# Altium schematic symbol library memory.SchLib: 20 symbols
Pins are listed as number, name and electrical type; pins without a type are passive.

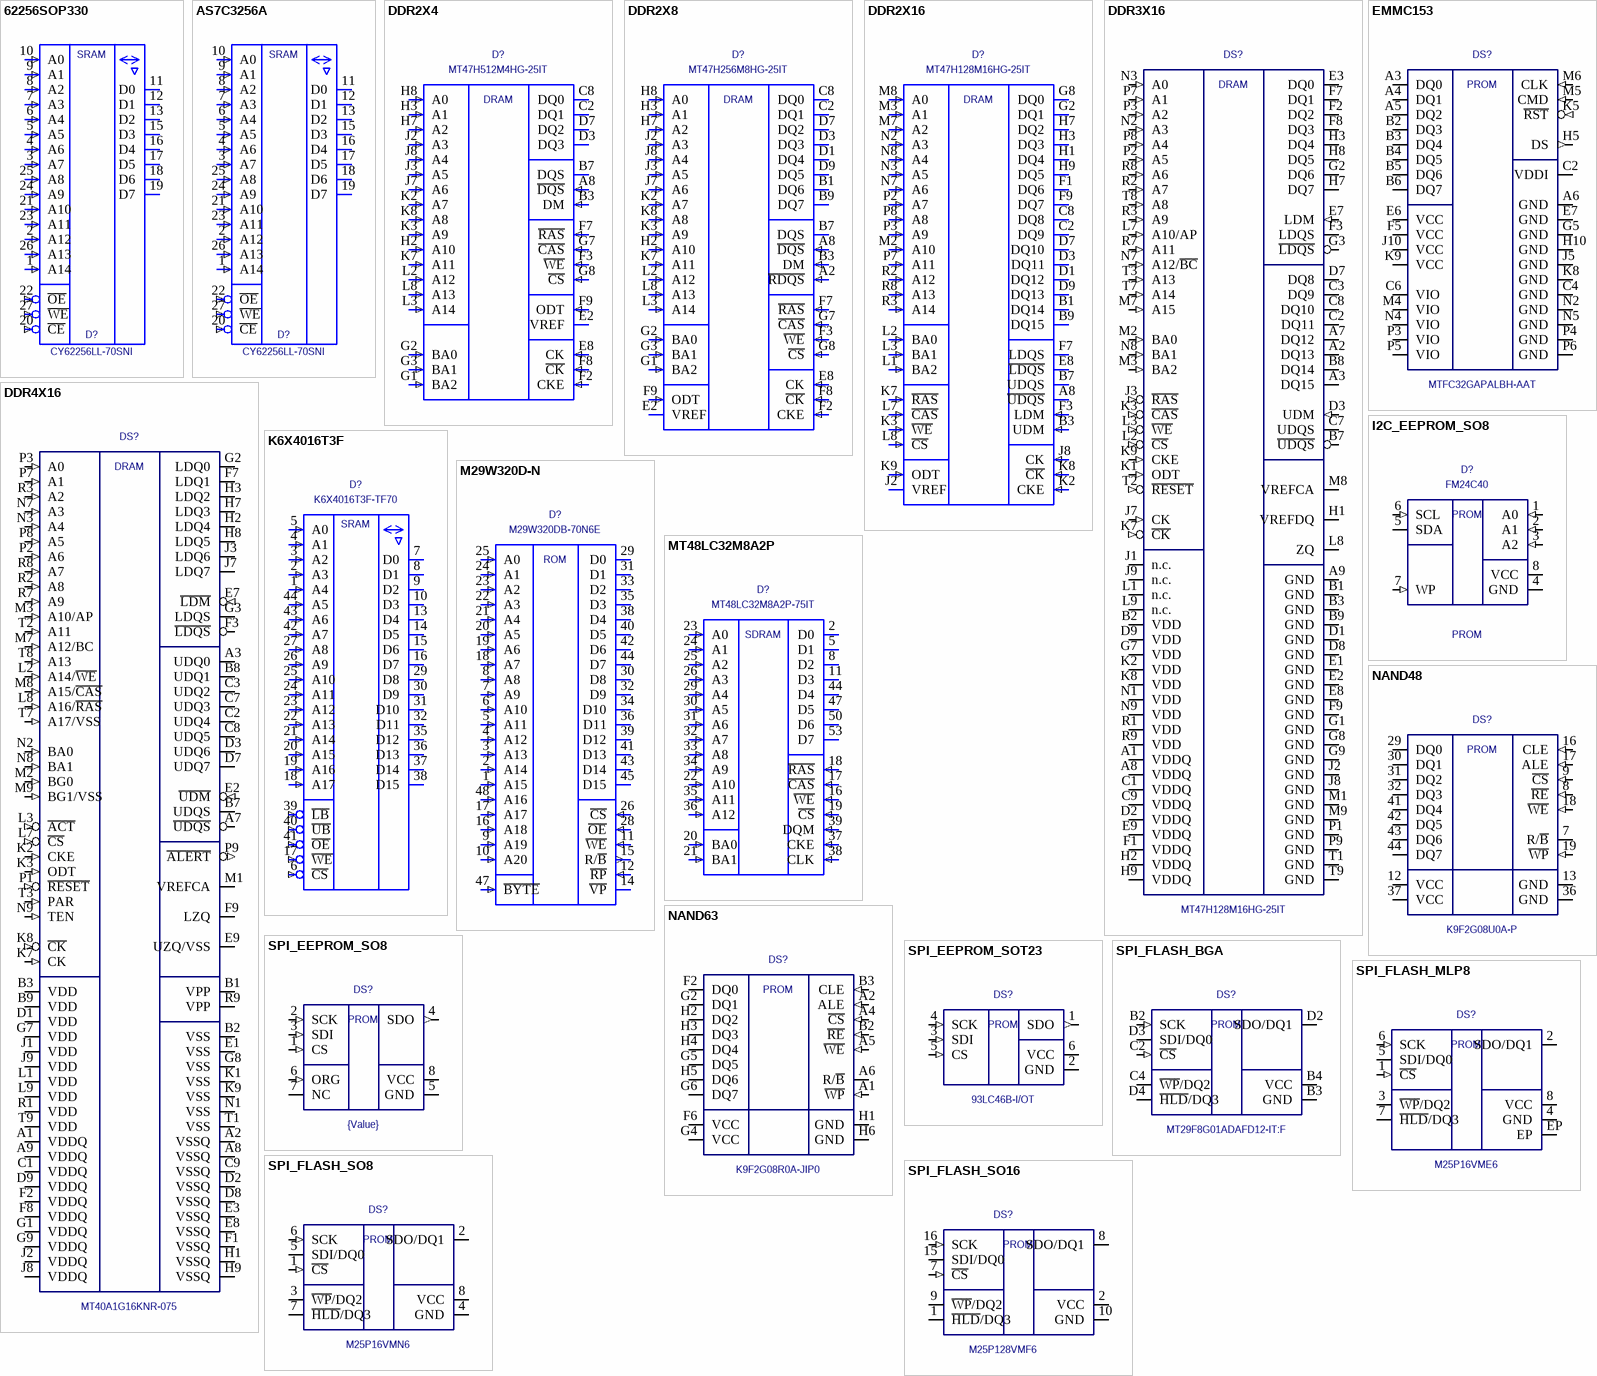
[diagram p0: symbols 62256SOP330 to SPI_FLASH_SO16]

## 62256SOP330
designator D?  value CY62256LL-70SNI  (hidden comment: 62256SOP330)
footprint SO28
pins: 1 A14 (in), 2 A12 (in), 3 A7 (in), 4 A6 (in), 5 A5 (in), 6 A4 (in), 7 A3 (in), 8 A2 (in), 9 A1 (in), 10 A0 (in), 11 D0 (io), 12 D1 (io), 13 D2 (io), 14 GND (power) hidden, 15 D3 (io), 16 D4 (io), 17 D5 (io), 18 D6 (io), 19 D7 (io), 20 ~{CE} (in), 21 A10 (in), 22 ~{OE} (in), 23 A11 (in), 24 A9 (in), 25 A8 (in), 26 A13 (in), 27 ~{WE} (in), 28 VCC (power) hidden
text: SRAM

## AS7C3256A
designator D?  value CY62256LL-70SNI  (hidden comment: AS7C3256A)
footprint SOJ28
pins: 1 A14 (in), 2 A12 (in), 3 A7 (in), 4 A6 (in), 5 A5 (in), 6 A4 (in), 7 A3 (in), 8 A2 (in), 9 A1 (in), 10 A0 (in), 11 D0 (io), 12 D1 (io), 13 D2 (io), 14 GND (power) hidden, 15 D3 (io), 16 D4 (io), 17 D5 (io), 18 D6 (io), 19 D7 (io), 20 ~{CE} (in), 21 A10 (in), 22 ~{OE} (in), 23 A11 (in), 24 A9 (in), 25 A8 (in), 26 A13 (in), 27 ~{WE} (in), 28 VCC (power) hidden
text: SRAM

## DDR2X4
designator D?  value MT47H512M4HG-25IT  (hidden comment: DDR2X4)
footprint FBGA60_DDR
pins: A1 VCCDDR (power) hidden, A2 hidden, A3 GND (power) hidden, A7 GND (power) hidden, A8 ~{DQS} (in), A9 VCCDDR (power) hidden, B1 hidden, B2 GND (power) hidden, B3 DM (in), B7 DQS (io), B8 GND (power) hidden, B9 hidden, C1 VCCDDR (power) hidden, C2 DQ1 (io), C3 VCCDDR (power) hidden, C7 VCCDDR (power) hidden, C8 DQ0 (io), C9 VCCDDR (power) hidden, D1 hidden, D2 GND (power) hidden, D3 DQ3 (io), D7 DQ2 (io), D8 GND (power) hidden, D9 hidden, E1 VCCDDR (power) hidden, E2 VREF, E3 GND (power) hidden, E7 GND (power) hidden, E8 CK (in), E9 VCCDDR (power) hidden, F2 CKE (in), F3 ~{WE} (in), F7 ~{RAS} (in), F8 ~{CK} (in), F9 ODT (in), G1 BA2 (in), G2 BA0 (in), G3 BA1 (in), G7 ~{CAS} (in), G8 ~{CS} (in), H2 A10 (in), H3 A1 (in), H7 A2 (in), H8 A0 (in), H9 VCCDDR (power) hidden, J1 GND (power) hidden, J2 A3 (in), J3 A5 (in), J7 A6 (in), J8 A4 (in), K2 A7 (in), K3 A9 (in), K7 A11 (in), K8 A8 (in), K9 GND (power) hidden, L1 VCCDDR (power) hidden, L2 A12 (in), L3 A14 (in), L7 hidden, L8 A13 (in)
text: DRAM

## DDR2X8
designator D?  value MT47H256M8HG-25IT  (hidden comment: DDR2X8)
footprint FBGA60_DDR
pins: A1 VCCDDR (power) hidden, A2 ~{RDQS} (in), A3 GND (power) hidden, A7 GND (power) hidden, A8 ~{DQS} (in), A9 VCCDDR (power) hidden, B1 DQ6 (io), B2 GND (power) hidden, B3 DM (in), B7 DQS (io), B8 GND (power) hidden, B9 DQ7 (io), C1 VCCDDR (power) hidden, C2 DQ1 (io), C3 VCCDDR (power) hidden, C7 VCCDDR (power) hidden, C8 DQ0 (io), C9 VCCDDR (power) hidden, D1 DQ4 (io), D2 GND (power) hidden, D3 DQ3 (io), D7 DQ2 (io), D8 GND (power) hidden, D9 DQ5 (io), E1 VCCDDR (power) hidden, E2 VREF, E3 GND (power) hidden, E7 GND (power) hidden, E8 CK (in), E9 VCCDDR (power) hidden, F2 CKE (in), F3 ~{WE} (in), F7 ~{RAS} (in), F8 ~{CK} (in), F9 ODT (in), G1 BA2 (in), G2 BA0 (in), G3 BA1 (in), G7 ~{CAS} (in), G8 ~{CS} (in), H2 A10 (in), H3 A1 (in), H7 A2 (in), H8 A0 (in), H9 VCCDDR (power) hidden, J1 GND (power) hidden, J2 A3 (in), J3 A5 (in), J7 A6 (in), J8 A4 (in), K2 A7 (in), K3 A9 (in), K7 A11 (in), K8 A8 (in), K9 GND (power) hidden, L1 VCCDDR (power) hidden, L2 A12 (in), L3 A14 (in), L7 hidden, L8 A13 (in)
text: DRAM

## DDR2X16
designator D?  value MT47H128M16HG-25IT  (hidden comment: DDR2X16)
footprint FBGA84_DDR
pins: A1 VCCDDR (power) hidden, A2 hidden, A3 GND (power) hidden, A7 GND (power) hidden, A8 ~{UDQS} (io), A9 VCCDDR (power) hidden, B1 DQ14 (io), B2 GND (power) hidden, B3 UDM (in), B7 UDQS (io), B8 GND (power) hidden, B9 DQ15 (io), C1 VCCDDR (power) hidden, C2 DQ9 (io), C3 VCCDDR (power) hidden, C7 VCCDDR (power) hidden, C8 DQ8 (io), C9 VCCDDR (power) hidden, D1 DQ12 (io), D2 GND (power) hidden, D3 DQ11 (io), D7 DQ10 (io), D8 GND (power) hidden, D9 DQ13 (io), E1 VCCDDR (power) hidden, E2 hidden, E3 GND (power) hidden, E7 GND (power) hidden, E8 ~{LDQS} (io), E9 VCCDDR (power) hidden, F1 DQ6 (io), F2 GND (power) hidden, F3 LDM (in), F7 LDQS (io), F8 GND (power) hidden, F9 DQ7 (io), G1 VCCDDR (power) hidden, G2 DQ1 (io), G3 VCCDDR (power) hidden, G7 VCCDDR (power) hidden, G8 DQ0 (io), G9 VCCDDR (power) hidden, H1 DQ4 (io), H2 GND (power) hidden, H3 DQ3 (io), H7 DQ2 (io), H8 GND (power) hidden, H9 DQ5 (io), J1 VCCDDR (power) hidden, J2 VREF, J3 GND (power) hidden, J7 GND (power) hidden, J8 CK (in), J9 VCCDDR (power) hidden, K2 CKE (in), K3 ~{WE} (in), K7 ~{RAS} (in), K8 ~{CK} (in), K9 ODT (in), L1 BA2 (in), L2 BA0 (in), L3 BA1 (in), L7 ~{CAS} (in), L8 ~{CS} (in), M2 A10 (in), M3 A1 (in), M7 A2 (in), M8 A0 (in), M9 VCCDDR (power) hidden, N1 GND (power) hidden, N2 A3 (in), N3 A5 (in), N7 A6 (in), N8 A4 (in), P2 A7 (in), P3 A9 (in), P7 A11 (in), P8 A8 (in), P9 GND (power) hidden, R1 VCCDDR (power) hidden, R2 A12 (in), R3 A14 (in), R7 hidden, R8 A13 (in)
text: DRAM

## DDR3X16
designator DS?, comment MT47H128M16HG-25IT
DDR3X16; Value: MT47H128M16HG-25IT
footprint FBGA96_10x14
footprint FBGA96_9X14
footprint FBGA96_8X14
pins: A1 VDDQ, A2 DQ13 (io), A3 DQ15 (io), A7 DQ12 (io), A8 VDDQ, A9 GND, B1 GND, B2 VDD, B3 GND, B7 ~{UDQS} (io), B8 DQ14 (io), B9 GND, C1 VDDQ, C2 DQ11 (io), C3 DQ9 (io), C7 UDQS (io), C8 DQ10 (io), C9 VDDQ, D1 GND, D2 VDDQ, D3 UDM (in), D7 DQ8 (io), D8 GND, D9 VDD, E1 GND, E2 GND, E3 DQ0 (io), E7 LDM (in), E8 GND, E9 VDDQ, F1 VDDQ, F2 DQ2 (io), F3 LDQS (io), F7 DQ1 (io), F8 DQ3 (io), F9 GND, G1 GND, G2 DQ6 (io), G3 ~{LDQS} (io), G7 VDD, G8 GND, G9 GND, H1 VREFDQ, H2 VDDQ, H3 DQ4 (io), H7 DQ7 (io), H8 DQ5 (io), H9 VDDQ, J1 n.c., J2 GND, J3 ~{RAS} (in), J7 CK (in), J8 GND, J9 n.c., K1 ODT (in), K2 VDD, K3 ~{CAS} (in), K7 ~{CK} (in), K8 VDD, K9 CKE (in), L1 n.c., L2 ~{CS} (in), L3 ~{WE} (in), L7 A10/AP (in), L8 ZQ, L9 n.c., M1 GND, M2 BA0 (in), M3 BA2 (in), M7 A15 (in), M8 VREFCA, M9 GND, N1 VDD, N2 A3 (in), N3 A0 (in), N7 A12/~{BC} (in), N8 BA1 (in), N9 VDD, P1 GND, P2 A5 (in), P3 A2 (in), P7 A1 (in), P8 A4 (in), P9 GND, R1 VDD, R2 A7 (in), R3 A9 (in), R7 A11 (in), R8 A6 (in), R9 VDD, T1 GND, T2 ~{RESET} (in), T3 A13 (in), T7 A14 (in), T8 A8 (in), T9 GND
text: DRAM

## DDR4X16
designator DS?, comment MT40A1G16KNR-075
DDR4X16; Value: MT40A1G16KNR-075
footprint FBGA96_10x14
footprint FBGA96_9X14
footprint FBGA96_8X14
pins: A1 VDDQ (power) "1,2V I/O power", A2 VSSQ (power) "I/O ground", A3 UDQ0 (io) "Data", A7 ~{UDQS} (io) "Data clock", A8 VSSQ (power) "I/O ground", A9 VDDQ (power) "1,2V I/O power", B1 VPP (power) "2,5V activation power", B2 VSS (power) "Core ground", B3 VDD (power) "1,2V core power", B7 UDQS (io) "Data clock", B8 UDQ1 (io) "Data", B9 VDD (power) "1,2V core power", C1 VDDQ (power) "1,2V I/O power", C2 UDQ4 (io) "Data", C3 UDQ2 (io) "Data", C7 UDQ3 (io) "Data", C8 UDQ5 (io) "Data", C9 VSSQ (power) "I/O ground", D1 VDD (power) "1,2V core power", D2 VSSQ (power) "I/O ground", D3 UDQ6 (io) "Data", D7 UDQ7 (io) "Data", D8 VSSQ (power) "I/O ground", D9 VDDQ (power) "1,2V I/O power", E1 VSS (power) "Core ground", E2 ~{UDM} (in) "Data mask", E3 VSSQ (power) "I/O ground", E7 ~{LDM} (in) "Data mask", E8 VSSQ (power) "I/O ground", E9 UZQ/VSS "Reference resistor 240 Ohm to ground", F1 VSSQ (power) "I/O ground", F2 VDDQ (power) "1,2V I/O power", F3 ~{LDQS} (io) "Data clock", F7 LDQ1 (io) "Data", F8 VDDQ (power) "1,2V I/O power", F9 LZQ "Reference resistor 240 Ohm to ground", G1 VDDQ (power) "1,2V I/O power", G2 LDQ0 (io) "Data", G3 LDQS (io) "Data clock", G7 VDD (power) "1,2V core power", G8 VSS (power) "Core ground", G9 VDDQ (power) "1,2V I/O power", H1 VSSQ (power) "I/O ground", H2 LDQ4 (io) "Data", H3 LDQ2 (io) "Data", H7 LDQ3 (io) "Data", H8 LDQ5 (io) "Data", H9 VSSQ (power) "I/O ground", J1 VDD (power) "1,2V core power", J2 VDDQ (power) "1,2V I/O power", J3 LDQ6 (io) "Data", J7 LDQ7 (io) "Data", J8 VDDQ (power) "1,2V I/O power", J9 VDD (power) "1,2V core power", K1 VSS (power) "Core ground", K2 CKE (in) "Control", K3 ODT (in) "Control", K7 CK (in) "Address/control clock", K8 ~{CK} (in) "Address/control clock", K9 VSS (power) "Core ground", L1 VDD (power) "1,2V core power", L2 A14/~{WE} (in) "Address/control", L3 ~{ACT} (in) "Control", L7 ~{CS} (in) "Control", L8 A16/~{RAS} (in) "Address/control", L9 VDD (power) "1,2V core power", M1 VREFCA "Reference voltage", M2 BG0 (in) "Address", M3 A10/AP (in) "Address/control", M7 A12/BC (in) "Address/control", M8 A15/~{CAS} (in) "Address/control", M9 BG1/VSS (in) "Address", N1 VSS (power) "Core ground", N2 BA0 (in) "Address", N3 A4 (in) "Address", N7 A3 (in) "Address", N8 BA1 (in) "Address", N9 TEN (in) "Control", P1 ~{RESET} (in) "Control", P2 A6 (in) "Address", P3 A0 (in) "Address", P7 A1 (in) "Address", P8 A5 (in) "Address", P9 ~{ALERT} (out) "Fail indicator", R1 VDD (power) "1,2V core power", R2 A8 (in) "Address", R3 A2 (in) "Address", R7 A9 (in) "Address", R8 A7 (in) "Address", R9 VPP (power) "2,5V activation power", T1 VSS (power) "Core ground", T2 A11 (in) "Address", T3 PAR (in) "Control", T7 A17/VSS (in) "Address/control", T8 A13 (in) "Address", T9 VDD (power) "1,2V core power"
text: DRAM

## EMMC153
designator DS?, comment MTFC32GAPALBH-AAT
EMMC153; Value: MTFC32GAPALBH-AAT
footprint TFBGA153_EMMC
footprint TFBGA169_EMMC
pins: A3 DQ0 (io) "Data I/O", A4 DQ1 (io) "Data I/O", A5 DQ2 (io) "Data I/O", A6 GND (power) "Ground", B2 DQ3 (io) "Data I/O", B3 DQ4 (io) "Data I/O", B4 DQ5 (io) "Data I/O", B5 DQ6 (io) "Data I/O", B6 DQ7 (io) "Data I/O", C2 VDDI "Internal voltage capacitor", C4 GND (power) "Ground", C6 VIO (power) "1,8/3,3V I/O power", E6 VCC (power) "3,3V core power", E7 GND (power) "Ground", F5 VCC (power) "3,3V core power", G5 GND (power) "Ground", H5 DS (out) "Data strobe", H10 GND (power) "Ground", J5 GND (power) "Ground", J10 VCC (power) "3,3V core power", K5 ~{RST} (in) "Reset", K8 GND (power) "Ground", K9 VCC (power) "3,3V core power", M4 VIO (power) "1,8/3,3V I/O power", M5 CMD (in) "Command", M6 CLK (in) "Clock", N2 GND (power) "Ground", N4 VIO (power) "1,8/3,3V I/O power", N5 GND (power) "Ground", P3 VIO (power) "1,8/3,3V I/O power", P4 GND (power) "Ground", P5 VIO (power) "1,8/3,3V I/O power", P6 GND (power) "Ground"
text: PROM

## I2C_EEPROM_SO8
designator D?, comment FM24C40
I2C EEPROM; Value: FM24C40
footprint SO8
pins: 1 A0 (in), 2 A1 (in), 3 A2 (in), 4 GND (power), 5 SDA (io), 6 SCL (in), 7 WP (in), 8 VCC (power)
text: PROM

## K6X4016T3F
designator D?  value K6X4016T3F-TF70  (hidden comment: K6X4016T3F)
footprint TSOP44-08-12
pins: 1 A4 (in), 2 A3 (in), 3 A2 (in), 4 A1 (in), 5 A0 (in), 6 ~{CS} (in), 7 D0 (io), 8 D1 (io), 9 D2 (io), 10 D3 (io), 11 VCC (power) hidden, 12 GND (power) hidden, 13 D4 (io), 14 D5 (io), 15 D6 (io), 16 D7 (io), 17 ~{WE} (in), 18 A17 (in), 19 A16 (in), 20 A15 (in), 21 A14 (in), 22 A13 (in), 23 A12 (in), 24 A11 (in), 25 A10 (in), 26 A9 (in), 27 A8 (in), 28 hidden, 29 D8 (io), 30 D9 (io), 31 D10 (io), 32 D11 (io), 33 VCC (power) hidden, 34 GND (power) hidden, 35 D12 (io), 36 D13 (io), 37 D14 (io), 38 D15 (io), 39 ~{LB} (in), 40 ~{UB} (in), 41 ~{OE} (in), 42 A7 (in), 43 A6 (in), 44 A5 (in)
text: SRAM

## M29W320D-N
designator D?  value M29W320DB-70N6E  (hidden comment: M29W320D-N)
footprint TSOP48-05-20
pins: 1 A15 (in), 2 A14 (in), 3 A13 (in), 4 A12 (in), 5 A11 (in), 6 A10 (in), 7 A9 (in), 8 A8 (in), 9 A19 (in), 10 A20 (in), 11 ~{WE} (in), 12 ~{RP} (in), 13 hidden, 14 ~{VP}, 15 R/~{B} (out), 16 A18 (in), 17 A17 (in), 18 A7 (in), 19 A6 (in), 20 A5 (in), 21 A4 (in), 22 A3 (in), 23 A2 (in), 24 A1 (in), 25 A0 (in), 26 ~{CS} (in), 27 GND (power) hidden, 28 ~{OE} (in), 29 D0 (io), 30 D8 (io), 31 D1 (io), 32 D9 (io), 33 D2 (io), 34 D10 (io), 35 D3 (io), 36 D11 (io), 37 VCC (power) hidden, 38 D4 (io), 39 D12 (io), 40 D5 (io), 41 D13 (io), 42 D6 (io), 43 D14 (io), 44 D7 (io), 45 D15 (io), 46 GND (power) hidden, 47 ~{BYTE} (in), 48 A16 (in)
text: ROM

## MT48LC32M8A2P
designator D?  value MT48LC32M8A2P-75IT  (hidden comment: MT48LC32M8A2P)
footprint TSOP54-08-12
pins: 1 VCC (power) hidden, 2 D0 (io), 3 VCC (power) hidden, 4 hidden, 5 D1 (io), 6 GND (power) hidden, 7 hidden, 8 D2 (io), 9 VCC (power) hidden, 10 hidden, 11 D3 (io), 12 GND (power) hidden, 13 hidden, 14 VCC (power) hidden, 15 hidden, 16 ~{WE} (in), 17 ~{CAS} (in), 18 ~{RAS} (in), 19 ~{CS} (in), 20 BA0 (in), 21 BA1 (in), 22 A10 (in), 23 A0 (in), 24 A1 (in), 25 A2 (in), 26 A3 (in), 27 VCC (power) hidden, 28 GND (power) hidden, 29 A4 (in), 30 A5 (in), 31 A6 (in), 32 A7 (in), 33 A8 (in), 34 A9 (in), 35 A11 (in), 36 A12 (in), 37 CKE (in), 38 CLK (in), 39 DQM (in), 40 hidden, 41 GND (power) hidden, 42 hidden, 43 VCC (power) hidden, 44 D4 (io), 45 hidden, 46 GND (power) hidden, 47 D5 (io), 48 hidden, 49 VCC (power) hidden, 50 D6 (io), 51 hidden, 52 GND (power) hidden, 53 D7 (io), 54 GND (power) hidden
text: SDRAM

## NAND48
designator DS?, comment K9F2G08U0A-P
NAND48; Value: K9F2G08U0A-P
footprint TSOP48-05-20
pins: 1 hidden, 2 hidden, 3 hidden, 4 hidden, 5 hidden, 6 hidden, 7 R/~{B} (oe), 8 ~{RE} (in), 9 ~{CS} (in), 10 hidden, 11 hidden, 12 VCC (power), 13 GND (power), 14 hidden, 15 hidden, 16 CLE (in), 17 ALE (in), 18 ~{WE} (in), 19 ~{WP} (in), 20 hidden, 21 hidden, 22 hidden, 23 hidden, 24 hidden, 25 hidden, 26 hidden, 27 hidden, 28 hidden, 29 DQ0 (io), 30 DQ1 (io), 31 DQ2 (io), 32 DQ3 (io), 33 hidden, 34 hidden, 35 hidden, 36 GND (power), 37 VCC (power), 38 hidden, 39 hidden, 40 hidden, 41 DQ4 (io), 42 DQ5 (io), 43 DQ6 (io), 44 DQ7 (io), 45 hidden, 46 hidden, 47 hidden, 48 hidden
text: PROM

## NAND63
designator DS?, comment K9F2G08R0A-JIP0
NAND63; Value: K9F2G08R0A-JIP0
footprint FBGA63_NAND
pins: A1 ~{WP} (in), A2 ALE (in), A3 GND (power) hidden, A4 ~{CS} (in), A5 ~{WE} (in), A6 R/~{B} (oe), B1 hidden, B2 ~{RE} (in), B3 CLE (in), B4 hidden, B5 hidden, B6 hidden, C1 hidden, C2 hidden, C3 hidden, C4 hidden, C5 hidden, C6 hidden, D1 hidden, D2 hidden, D3 hidden, D4 hidden, D5 hidden, D6 hidden, E1 hidden, E2 hidden, E3 hidden, E4 hidden, E5 hidden, E6 hidden, F1 hidden, F2 DQ0 (io), F3 hidden, F4 hidden, F5 hidden, F6 VCC (power), G1 hidden, G2 DQ1 (io), G3 hidden, G4 VCC (power), G5 DQ5 (io), G6 DQ7 (io), H1 GND (power), H2 DQ2 (io), H3 DQ3 (io), H4 DQ4 (io), H5 DQ6 (io), H6 GND (power), U1 hidden, U2 hidden, U3 hidden, U4 hidden, U5 hidden, U6 hidden, U7 hidden, U8 hidden, U9 hidden, U10 hidden, U11 hidden
text: PROM

## SPI_EEPROM_SO8
designator DS?, comment {Value}
SPI EEPROM; Value: {Value}
footprint SO8
pins: 1 CS (in), 2 SCK (in), 3 SDI (in), 4 SDO (out), 5 GND (power), 6 ORG (in), 7 NC, 8 VCC (power)
text: PROM

## SPI_EEPROM_SOT23
designator DS?, comment 93LC46B-I/OT
SPI EEPROM; Value: 93LC46B-I/OT
footprint SOT-23-6
pins: 1 SDO (out), 2 GND (power), 3 SDI (in), 4 SCK (in), 5 CS (in), 6 VCC (power)
text: PROM

## SPI_FLASH_BGA
designator DS?, comment MT29F8G01ADAFD12-IT:F
SPI FLASH; Value: MT29F8G01ADAFD12-IT:F
footprint TBGA24_FLASH
pins: B2 SCK (in), B3 GND (power), B4 VCC (power), C2 ~{CS} (in), C4 ~{WP}/DQ2 (io), D2 SDO/DQ1 (io), D3 SDI/DQ0 (io), D4 ~{HLD}/DQ3 (io)
text: PROM

## SPI_FLASH_MLP8
designator DS?, comment M25P16VME6
SPI FLASH; Value: M25P16VME6
footprint MLP8
pins: 1 ~{CS} (in), 2 SDO/DQ1 (io), 3 ~{WP}/DQ2 (io), 4 GND (power), 5 SDI/DQ0 (io), 6 SCK (in), 7 ~{HLD}/DQ3 (io), 8 VCC (power), EP (power)
text: PROM

## SPI_FLASH_SO8
designator DS?, comment M25P16VMN6
SPI FLASH; Value: M25P16VMN6
footprint SO8
footprint SO8W
pins: 1 ~{CS} (in), 2 SDO/DQ1 (io), 3 ~{WP}/DQ2 (io), 4 GND (power), 5 SDI/DQ0 (io), 6 SCK (in), 7 ~{HLD}/DQ3 (io), 8 VCC (power)
text: PROM

## SPI_FLASH_SO16
designator DS?, comment M25P128VMF6
SPI FLASH; Value: M25P128VMF6
footprint SO16W
pins: 1 ~{HLD}/DQ3 (io), 2 VCC (power), 3 hidden, 4 hidden, 5 hidden, 6 hidden, 7 ~{CS} (in), 8 SDO/DQ1 (io), 9 ~{WP}/DQ2 (io), 10 GND (power), 11 hidden, 12 hidden, 13 hidden, 14 hidden, 15 SDI/DQ0 (io), 16 SCK (in)
text: PROM